# Altium schematic symbol library BB.SchLib: 1 symbol
Pins are listed as number, name and electrical type; pins without a type are passive.

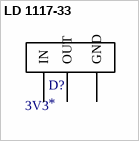
[diagram p0: symbol LD 1117-33]

## LD 1117-33
designator D?  LD 1117-33: 3V3
footprint SOT230P700X180-4N (SOT223, 4-Leads, Body 6,50x7,00mm (avg), Pitch 2,30mm, IPC Medium Density)
pins: GND, IN, OUT